# EAGLE library part ACS711 (library CPSS_IC)
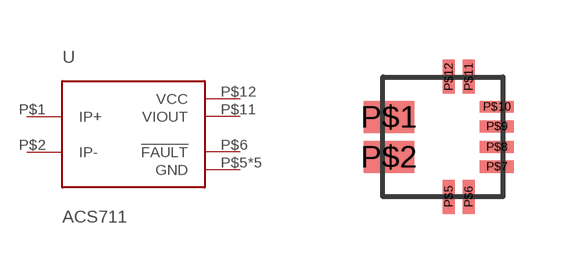
[diagram p5: symbol with the pads of QFN-12; footprint QFN-12]

Designator prefix -

## ACS711  [QFN-12]
P$1  IP+
P$2  IP-
P$5  GND
P$6  !FAULT
P$7  GND
P$8  GND
P$9  GND
P$10  GND
P$11  VIOUT
P$12  VCC

## Footprint QFN-12 (pad centres in mm)
smd 1.27 x 0.8: P$1 -1.35,0.5; P$2 -1.35,-0.5
smd 0.3 x 0.85: P$5 0.15,-1.5; P$6 0.65,-1.5; P$11 0.65,1.5; P$12 0.15,1.5
smd 0.85 x 0.3: P$7 1.35,-0.75; P$8 1.35,-0.258; P$9 1.35,0.258; P$10 1.35,0.75